# EAGLE library part FT51A (library ICs)
8 Bit Microcontroller, FT51, 48 MHz, 16 KB, 8 KB, 48, QFN
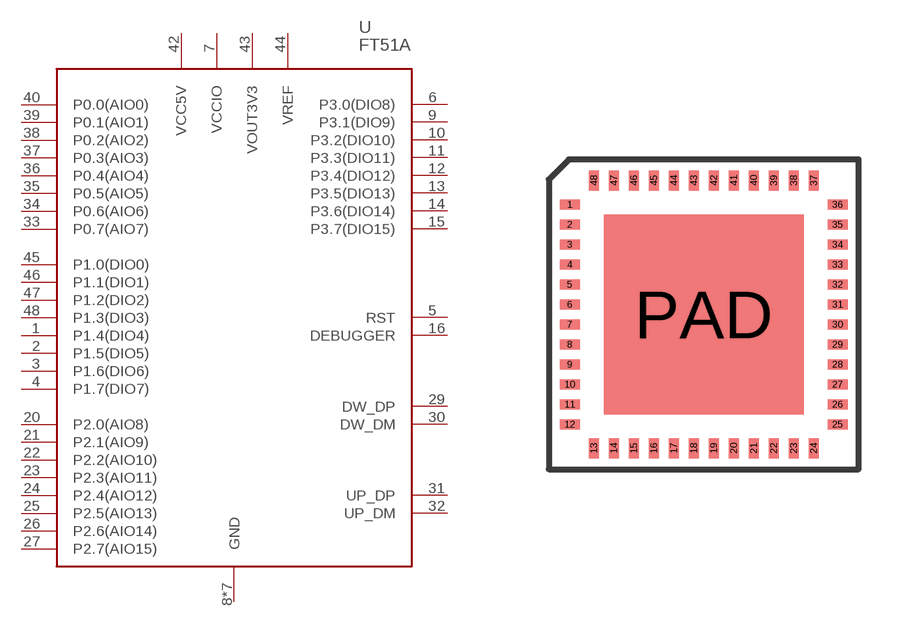
[diagram p100: symbol with the pads of QFN48_7X7; footprint QFN48_7X7]

Designator prefix U

## FT51AQ-T (FARNELL: 2521258; PRICE_PER: 2.0336; VALUE: FT51A)  [QFN48_7X7]
1  P1.4(DIO4)
2  P1.5(DIO5)
3  P1.6(DIO6)
4  P1.7(DIO7)
5  RST
6  P3.0(DIO8)
7  VCCIO
8  GND
9  P3.1(DIO9)
10  P3.2(DIO10)
11  P3.3(DIO11)
12  P3.4(DIO12)
13  P3.5(DIO13)
14  P3.6(DIO14)
15  P3.7(DIO15)
16  DEBUGGER
17  GND
18  GND
19  GND
20  P2.0(AIO8)
21  P2.1(AIO9)
22  P2.2(AIO10)
23  P2.3(AIO11)
24  P2.4(AIO12)
25  P2.5(AIO13)
26  P2.6(AIO14)
27  P2.7(AIO15)
28  GND
29  DW_DP
30  DW_DM
31  UP_DP
32  UP_DM
33  P0.7(AIO7)
34  P0.6(AIO6)
35  P0.5(AIO5)
36  P0.4(AIO4)
37  P0.3(AIO3)
38  P0.2(AIO2)
39  P0.1(AIO1)
40  P0.0(AIO0)
41  GND
42  VCC5V
43  VOUT3V3
44  VREF
45  P1.0(DIO0)
46  P1.1(DIO1)
47  P1.2(DIO2)
48  P1.3(DIO3)
PAD  GND

## Footprint QFN48_7X7 (pad centres in mm)
smd 0.5 x 0.25: 1 -3.35,2.75; 2 -3.35,2.25; 3 -3.35,1.75; 4 -3.35,1.25; 5 -3.35,0.75; 6 -3.35,0.25; 7 -3.35,-0.25; 8 -3.35,-0.75; 9 -3.35,-1.25; 10 -3.35,-1.75; 11 -3.35,-2.25; 12 -3.35,-2.75; 25 3.35,-2.75; 26 3.35,-2.25; 27 3.35,-1.75; 28 3.35,-1.25; 29 3.35,-0.75; 30 3.35,-0.25; 31 3.35,0.25; 32 3.35,0.75; 33 3.35,1.25; 34 3.35,1.75; 35 3.35,2.25; 36 3.35,2.75
smd 0.25 x 0.5: 13 -2.75,-3.35; 14 -2.25,-3.35; 15 -1.75,-3.35; 16 -1.25,-3.35; 17 -0.75,-3.35; 18 -0.25,-3.35; 19 0.25,-3.35; 20 0.75,-3.35; 21 1.25,-3.35; 22 1.75,-3.35; 23 2.25,-3.35; 24 2.75,-3.35; 37 2.75,3.35; 38 2.25,3.35; 39 1.75,3.35; 40 1.25,3.35; 41 0.75,3.35; 42 0.25,3.35; 43 -0.25,3.35; 44 -0.75,3.35; 45 -1.25,3.35; 46 -1.75,3.35; 47 -2.25,3.35; 48 -2.75,3.35
smd 5 x 5: PAD 0,0